# Altium integrated library Linear Technology Power Management uModule Regulators.IntLib: 166 symbols (part 34 of 67)
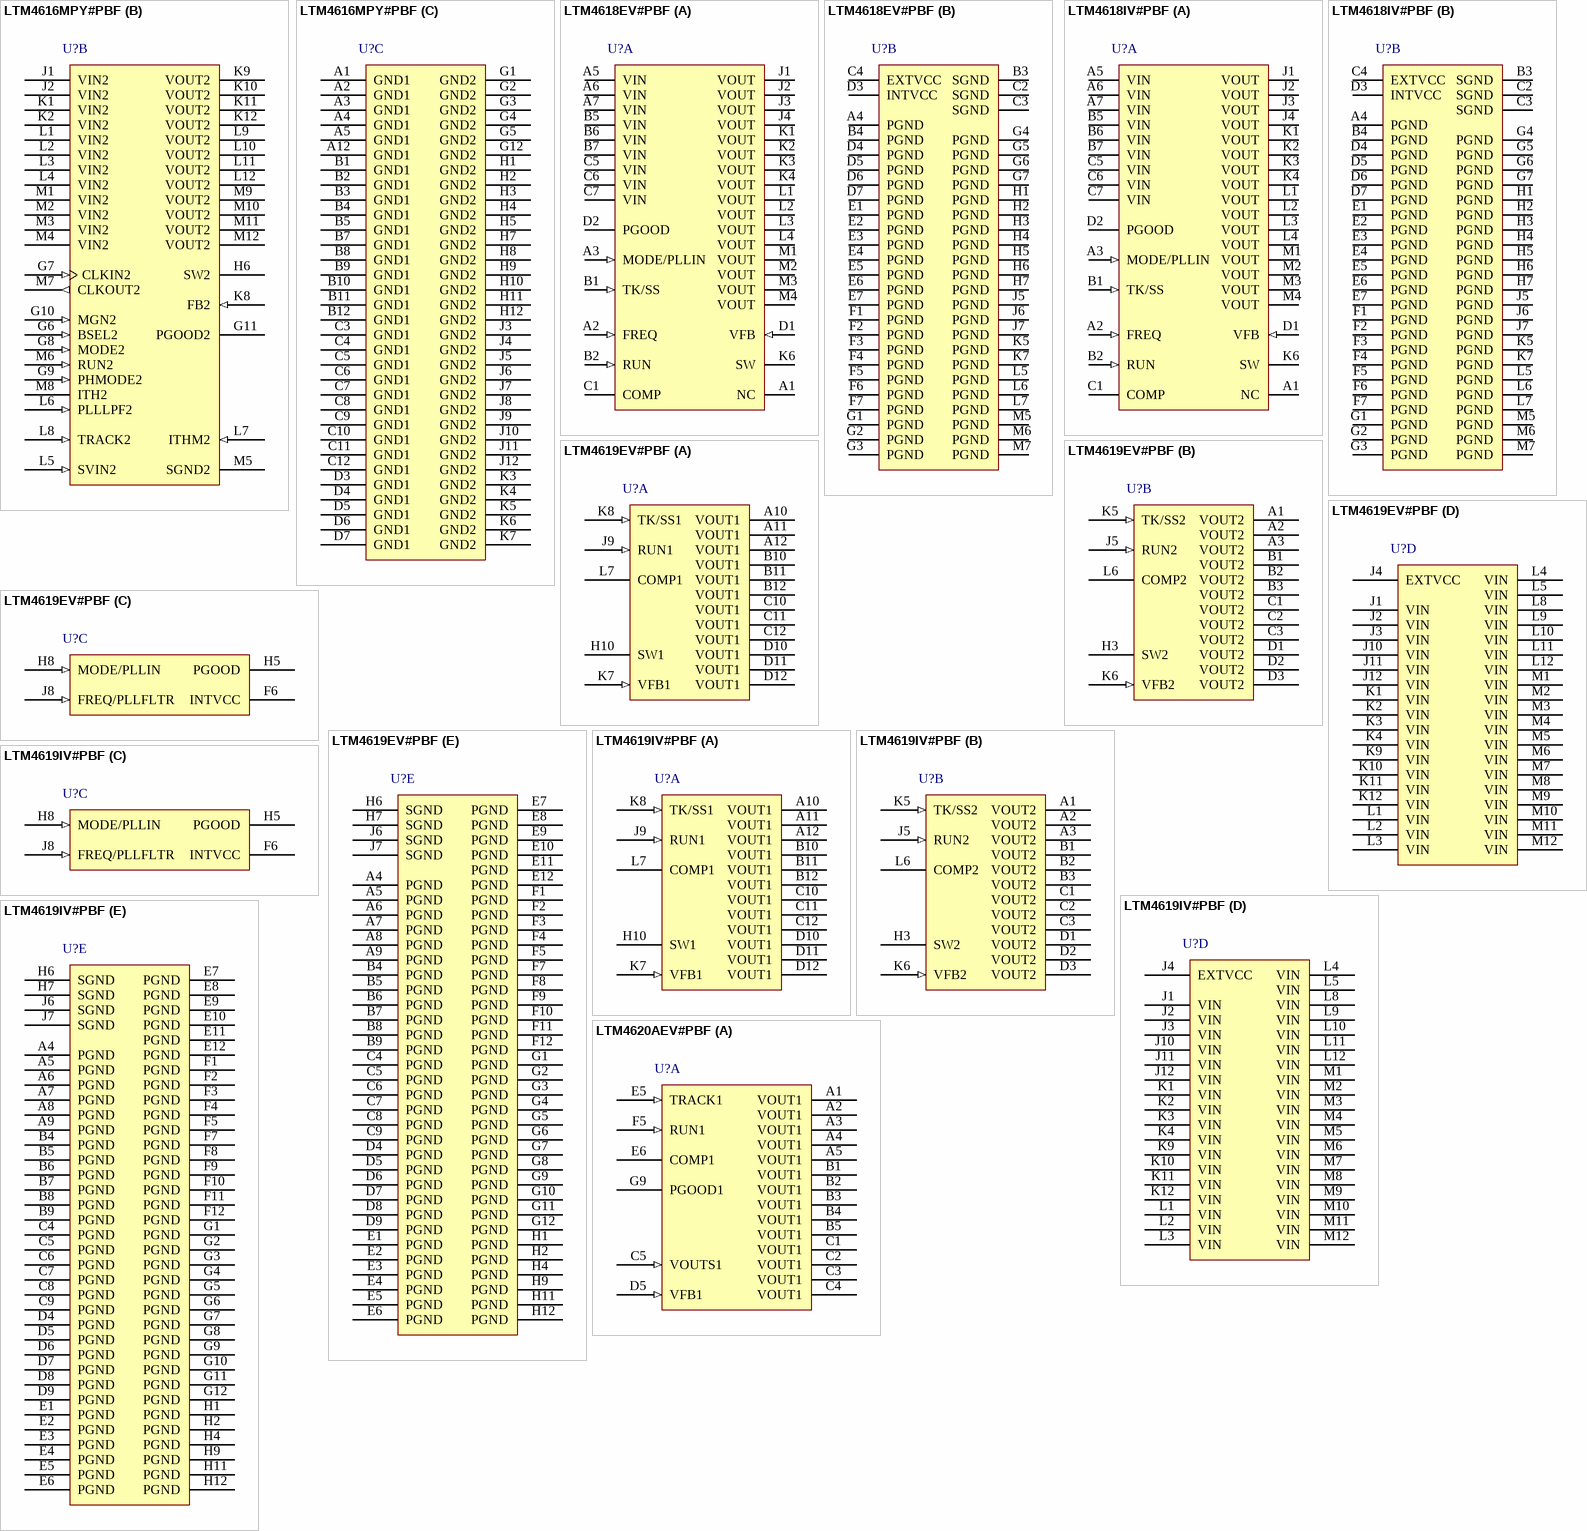
[diagram p60: symbols LTM4616MPY#PBF to LTM4620AEV#PBF]

## LTM4616MPY#PBF
designator U?
Dual 8 A per Channel Low VIN DC/DC uModule Regulator, 144-pin BGA, -55 to 125 degC, Pb-Free, Tray; Manufacturer: Linear Technology; PartNumber: LTM4616MPY#PBF; Extended Temp: E, I, MP; Frequency Sync Range: 750kHz - 2.25MHz; Ishutdown(uA): 1; Isupply(mA): 0.4; Number of Outputs: 1 or 2; Output Current(A): 8 or 16; Switch Current(A): 13 or 26; Synchronous: yes; Topology: Buck; Vin Max(V): 5.5; Vin Min(V): 2.7; Vout Max(V): 5; Vout Min(V): 0.6; DatasheetVersion: Rev. E; PackageVersion: Rev. B, 01/2013; PackageReference: BGA-144; PackageDescription: 144-Ball BGA, Body 15 x 15 mm, Pitch 1.27 mm; Supplier 1: Digi-Key; Supplier Part Number 1: LTM4616MPY#PBF-ND; Supplier 2: Newark; Supplier Part Number 2: 05W4639; Packing: Tray; RoHS: TRUE; Tracking: yes; Mounting Technology: Surface Mount; Code_JEDEC: MS-028; ComponentLink1Description: Manufacturer URL; ComponentLink1URL: http://www.linear.com/; ComponentLink2Description: Datasheet; ComponentLink2URL: http://cds.linear.com/docs/en/datasheet/4616fe.pdf; ComponentLink3Description: Package Specification; ComponentLink3URL: http://cds.linear.com/docs/en/packaging/05081902_B_bga144.pdf
footprint LT-BGA-144-05-08-1902 (BGA, 144-Balls, Body 15x15mm, Pitch 1.27mm)
part A pins: A6 BSEL1 (in) "Margining Bit Select Pin for Each Channel. Tying BSEL low selects +/-5% margin value, tying it high selects 10% margin value. Floating it or tying it to VIN/2 selects 15% margin value.", A7 CLKIN1 (in) "External Synchronization Input to Phase Detector for Each Channel. This pin is internally terminated to SGND with a 50k resistor. The phase-locked loop will force the internal top power PMOS turn on to be synchronized with (See Datasheet)", A8 MODE1 (in) "Mode Select Input for Each Channel. Tying this pin high enables Burst Mode operation. Tying this pin low enables forced continuous operation. Floating this pin or tying it to VIN/2 enables pulse-skipping operation.", A9 PHMODE1 (in) "Phase Selector Input for Each Channel. This pin determines the phase relationship between the internal oscillator and CLKOUT. Tie it high for 2-phase operation, tie it low for 3-phase operation, and float or tie it to VIN/2 (See Datasheet)", A10 MGN1 (in) "Voltage Margining Pin for Each Channel. Increases or decreases the output voltage by the amount specified by the BSEL pin. To disable margining, tie the MGN pin to a voltage divider with 50k resistors from VIN to ground (see (See Datasheet)", A11 PGOOD1 (oc) "Output Voltage Power Good Indicator for Each Channel. Open-drain logic output that is pulled to ground when the output voltage is not within +/-10% of the regulation point. Power good is disabled during margining.", B6 SW1 "Switching Node of Each Channel That is Used for Testing Purposes. This can be connected to an electronically open circuit copper pad on the board for improved thermal performance.", C1 VIN1 (power) "Power Input Pins. Apply input voltage between these pins and GND pins. Recommend placing input decoupling capacitance directly between VIN pins and GND pins.", C2 VIN1 (power) "Power Input Pins. Apply input voltage between these pins and GND pins. Recommend placing input decoupling capacitance directly between VIN pins and GND pins.", D1 VIN1 (power) "Power Input Pins. Apply input voltage between these pins and GND pins. Recommend placing input decoupling capacitance directly between VIN pins and GND pins.", D2 VIN1 (power) "Power Input Pins. Apply input voltage between these pins and GND pins. Recommend placing input decoupling capacitance directly between VIN pins and GND pins.", D8 FB1 (in) "The Negative Input of the Error Amplifier for Each Channel. Internally, this pin is connected to VOUT with a 10k precision resistor. Different output voltages can be programmed with an additional resistor between FB and GND (See Datasheet)", D9 VOUT1 (power) "Power Output Pins. Apply output load between these pins and GND pins. Recommend placing output decoupling capacitance directly between these pins and GND pins. See Table 1.", D10 VOUT1 (power) "Power Output Pins. Apply output load between these pins and GND pins. Recommend placing output decoupling capacitance directly between these pins and GND pins. See Table 1.", D11 VOUT1 (power) "Power Output Pins. Apply output load between these pins and GND pins. Recommend placing output decoupling capacitance directly between these pins and GND pins. See Table 1.", D12 VOUT1 (power) "Power Output Pins. Apply output load between these pins and GND pins. Recommend placing output decoupling capacitance directly between these pins and GND pins. See Table 1.", E1 VIN1 (power) "Power Input Pins. Apply input voltage between these pins and GND pins. Recommend placing input decoupling capacitance directly between VIN pins and GND pins.", E2 VIN1 (power) "Power Input Pins. Apply input voltage between these pins and GND pins. Recommend placing input decoupling capacitance directly between VIN pins and GND pins.", E3 VIN1 (power) "Power Input Pins. Apply input voltage between these pins and GND pins. Recommend placing input decoupling capacitance directly between VIN pins and GND pins.", E4 VIN1 (power) "Power Input Pins. Apply input voltage between these pins and GND pins. Recommend placing input decoupling capacitance directly between VIN pins and GND pins.", E5 SVIN1 (in) "Signal Input Voltage for Each Channel. This pin is internally connected to VIN through a lowpass filter.", E6 PLLLPF1 (in) "Phase-Locked Loop Lowpass Filter for Each Channel. An internal lowpass filter is tied to this pin. In spread spectrum mode, placing a capacitor here to SGND controls the slew rate from one frequency to the next. (See Datasheet)", E7 ITHM1 (in) "Negative Input to the Internal ITH Differential Amplifier for Each Channel. Tie this pin to SGND for single phase operation on each channel. For PolyPhase operation, tie the master’s ITHM to SGND while connecting all o(See Datasheet)", E8 TRACK1 (in) "Output Voltage Tracking Pin for Each Channel. Voltage tracking is enabled when the TRACK voltage is below 0.57V. If tracking is not desired, then connect the TRACK pin to SVIN. If TRACK is not tied to SVIN, then the TRACK (See Datasheet)", E9 VOUT1 (power) "Power Output Pins. Apply output load between these pins and GND pins. Recommend placing output decoupling capacitance directly between these pins and GND pins. See Table 1.", E10 VOUT1 (power) "Power Output Pins. Apply output load between these pins and GND pins. Recommend placing output decoupling capacitance directly between these pins and GND pins. See Table 1.", E11 VOUT1 (power) "Power Output Pins. Apply output load between these pins and GND pins. Recommend placing output decoupling capacitance directly between these pins and GND pins. See Table 1.", E12 VOUT1 (power) "Power Output Pins. Apply output load between these pins and GND pins. Recommend placing output decoupling capacitance directly between these pins and GND pins. See Table 1.", F1 VIN1 (power) "Power Input Pins. Apply input voltage between these pins and GND pins. Recommend placing input decoupling capacitance directly between VIN pins and GND pins.", F2 VIN1 (power) "Power Input Pins. Apply input voltage between these pins and GND pins. Recommend placing input decoupling capacitance directly between VIN pins and GND pins.", F3 VIN1 (power) "Power Input Pins. Apply input voltage between these pins and GND pins. Recommend placing input decoupling capacitance directly between VIN pins and GND pins.", F4 VIN1 (power) "Power Input Pins. Apply input voltage between these pins and GND pins. Recommend placing input decoupling capacitance directly between VIN pins and GND pins.", F5 SGND1 (power) "Signal Ground Pin for Each Channel. Return ground path for all analog and low power circuitry. Tie a single connection to the output capacitor GND in the application. See layout guidelines in Figure 17.", F6 RUN1 (in) "Run Control Pin. A voltage above 1.7V will turn on the module.", F7 CLKOUT1 (out) "Output Clock Signal for PolyPhase Operation. The phase of CLKOUT is determined by the state of the PHMODE pin.", F8 ITH1 "Current Control Threshold and Error Amplifier Compensation Point for Each Channel. The current comparator threshold increases with this control voltage. Tie together in parallel operation.", F9 VOUT1 (power) "Power Output Pins. Apply output load between these pins and GND pins. Recommend placing output decoupling capacitance directly between these pins and GND pins. See Table 1.", F10 VOUT1 (power) "Power Output Pins. Apply output load between these pins and GND pins. Recommend placing output decoupling capacitance directly between these pins and GND pins. See Table 1.", F11 VOUT1 (power) "Power Output Pins. Apply output load between these pins and GND pins. Recommend placing output decoupling capacitance directly between these pins and GND pins. See Table 1.", F12 VOUT1 (power) "Power Output Pins. Apply output load between these pins and GND pins. Recommend placing output decoupling capacitance directly between these pins and GND pins. See Table 1."
part B pins: G6 BSEL2 (in) "Margining Bit Select Pin for Each Channel. Tying BSEL low selects +/-5% margin value, tying it high selects 10% margin value. Floating it or tying it to VIN/2 selects 15% margin value.", G7 CLKIN2 (in) "External Synchronization Input to Phase Detector for Each Channel. This pin is internally terminated to SGND with a 50k resistor. The phase-locked loop will force the internal top power PMOS turn on to be synchronized with (See Datasheet)", G8 MODE2 (in) "Mode Select Input for Each Channel. Tying this pin high enables Burst Mode operation. Tying this pin low enables forced continuous operation. Floating this pin or tying it to VIN/2 enables pulse-skipping operation.", G9 PHMODE2 (in) "Phase Selector Input for Each Channel. This pin determines the phase relationship between the internal oscillator and CLKOUT. Tie it high for 2-phase operation, tie it low for 3-phase operation, and float or tie it to VIN/2 (See Datasheet)", G10 MGN2 (in) "Voltage Margining Pin for Each Channel. Increases or decreases the output voltage by the amount specified by the BSEL pin. To disable margining, tie the MGN pin to a voltage divider with 50k resistors from VIN to ground (see (See Datasheet)", G11 PGOOD2 (oc) "Output Voltage Power Good Indicator for Each Channel. Open-drain logic output that is pulled to ground when the output voltage is not within +/-10% of the regulation point. Power good is disabled during margining.", H6 SW2 "Switching Node of Each Channel That is Used for Testing Purposes. This can be connected to an electronically open circuit copper pad on the board for improved thermal performance.", J1 VIN2 (power) "Power Input Pins. Apply input voltage between these pins and GND pins. Recommend placing input decoupling capacitance directly between VIN pins and GND pins.", J2 VIN2 (power) "Power Input Pins. Apply input voltage between these pins and GND pins. Recommend placing input decoupling capacitance directly between VIN pins and GND pins.", K1 VIN2 (power) "Power Input Pins. Apply input voltage between these pins and GND pins. Recommend placing input decoupling capacitance directly between VIN pins and GND pins.", K2 VIN2 (power) "Power Input Pins. Apply input voltage between these pins and GND pins. Recommend placing input decoupling capacitance directly between VIN pins and GND pins.", K8 FB2 (in) "The Negative Input of the Error Amplifier for Each Channel. Internally, this pin is connected to VOUT with a 10k precision resistor. Different output voltages can be programmed with an additional resistor between FB and GND (See Datasheet)", K9 VOUT2 (power) "Power Output Pins. Apply output load between these pins and GND pins. Recommend placing output decoupling capacitance directly between these pins and GND pins. See Table 1.", K10 VOUT2 (power) "Power Output Pins. Apply output load between these pins and GND pins. Recommend placing output decoupling capacitance directly between these pins and GND pins. See Table 1.", K11 VOUT2 (power) "Power Output Pins. Apply output load between these pins and GND pins. Recommend placing output decoupling capacitance directly between these pins and GND pins. See Table 1.", K12 VOUT2 (power) "Power Output Pins. Apply output load between these pins and GND pins. Recommend placing output decoupling capacitance directly between these pins and GND pins. See Table 1.", L1 VIN2 (power) "Power Input Pins. Apply input voltage between these pins and GND pins. Recommend placing input decoupling capacitance directly between VIN pins and GND pins.", L2 VIN2 (power) "Power Input Pins. Apply input voltage between these pins and GND pins. Recommend placing input decoupling capacitance directly between VIN pins and GND pins.", L3 VIN2 (power) "Power Input Pins. Apply input voltage between these pins and GND pins. Recommend placing input decoupling capacitance directly between VIN pins and GND pins.", L4 VIN2 (power) "Power Input Pins. Apply input voltage between these pins and GND pins. Recommend placing input decoupling capacitance directly between VIN pins and GND pins.", L5 SVIN2 (in) "Signal Input Voltage for Each Channel. This pin is internally connected to VIN through a lowpass filter.", L6 PLLLPF2 (in) "Phase-Locked Loop Lowpass Filter for Each Channel. An internal lowpass filter is tied to this pin. In spread spectrum mode, placing a capacitor here to SGND controls the slew rate from one frequency to the next. (See Datasheet)", L7 ITHM2 (in) "Negative Input to the Internal ITH Differential Amplifier for Each Channel. Tie this pin to SGND for single phase operation on each channel. For PolyPhase operation, tie the master’s ITHM to SGND while connecting all o(See Datasheet)", L8 TRACK2 (in) "Output Voltage Tracking Pin for Each Channel. Voltage tracking is enabled when the TRACK voltage is below 0.57V. If tracking is not desired, then connect the TRACK pin to SVIN. If TRACK is not tied to SVIN, then the TRACK (See Datasheet)", L9 VOUT2 (power) "Power Output Pins. Apply output load between these pins and GND pins. Recommend placing output decoupling capacitance directly between these pins and GND pins. See Table 1.", L10 VOUT2 (power) "Power Output Pins. Apply output load between these pins and GND pins. Recommend placing output decoupling capacitance directly between these pins and GND pins. See Table 1.", L11 VOUT2 (power) "Power Output Pins. Apply output load between these pins and GND pins. Recommend placing output decoupling capacitance directly between these pins and GND pins. See Table 1.", L12 VOUT2 (power) "Power Output Pins. Apply output load between these pins and GND pins. Recommend placing output decoupling capacitance directly between these pins and GND pins. See Table 1.", M1 VIN2 (power) "Power Input Pins. Apply input voltage between these pins and GND pins. Recommend placing input decoupling capacitance directly between VIN pins and GND pins.", M2 VIN2 (power) "Power Input Pins. Apply input voltage between these pins and GND pins. Recommend placing input decoupling capacitance directly between VIN pins and GND pins.", M3 VIN2 (power) "Power Input Pins. Apply input voltage between these pins and GND pins. Recommend placing input decoupling capacitance directly between VIN pins and GND pins.", M4 VIN2 (power) "Power Input Pins. Apply input voltage between these pins and GND pins. Recommend placing input decoupling capacitance directly between VIN pins and GND pins.", M5 SGND2 (power) "Signal Ground Pin for Each Channel. Return ground path for all analog and low power circuitry. Tie a single connection to the output capacitor GND in the application. See layout guidelines in Figure 17.", M6 RUN2 (in) "Run Control Pin. A voltage above 1.7V will turn on the module.", M7 CLKOUT2 (out) "Output Clock Signal for PolyPhase Operation. The phase of CLKOUT is determined by the state of the PHMODE pin.", M8 ITH2 "Current Control Threshold and Error Amplifier Compensation Point for Each Channel. The current comparator threshold increases with this control voltage. Tie together in parallel operation.", M9 VOUT2 (power) "Power Output Pins. Apply output load between these pins and GND pins. Recommend placing output decoupling capacitance directly between these pins and GND pins. See Table 1.", M10 VOUT2 (power) "Power Output Pins. Apply output load between these pins and GND pins. Recommend placing output decoupling capacitance directly between these pins and GND pins. See Table 1.", M11 VOUT2 (power) "Power Output Pins. Apply output load between these pins and GND pins. Recommend placing output decoupling capacitance directly between these pins and GND pins. See Table 1.", M12 VOUT2 (power) "Power Output Pins. Apply output load between these pins and GND pins. Recommend placing output decoupling capacitance directly between these pins and GND pins. See Table 1."
part C pins: A1 GND1 (power) "Power Ground Pins for Both Input and Output Returns.", A2 GND1 (power) "Power Ground Pins for Both Input and Output Returns.", A3 GND1 (power) "Power Ground Pins for Both Input and Output Returns.", A4 GND1 (power) "Power Ground Pins for Both Input and Output Returns.", A5 GND1 (power) "Power Ground Pins for Both Input and Output Returns.", A12 GND1 (power) "Power Ground Pins for Both Input and Output Returns.", B1 GND1 (power) "Power Ground Pins for Both Input and Output Returns.", B2 GND1 (power) "Power Ground Pins for Both Input and Output Returns.", B3 GND1 (power) "Power Ground Pins for Both Input and Output Returns.", B4 GND1 (power) "Power Ground Pins for Both Input and Output Returns.", B5 GND1 (power) "Power Ground Pins for Both Input and Output Returns.", B7 GND1 (power) "Power Ground Pins for Both Input and Output Returns.", B8 GND1 (power) "Power Ground Pins for Both Input and Output Returns.", B9 GND1 (power) "Power Ground Pins for Both Input and Output Returns.", B10 GND1 (power) "Power Ground Pins for Both Input and Output Returns.", B11 GND1 (power) "Power Ground Pins for Both Input and Output Returns.", B12 GND1 (power) "Power Ground Pins for Both Input and Output Returns.", C3 GND1 (power) "Power Ground Pins for Both Input and Output Returns.", C4 GND1 (power) "Power Ground Pins for Both Input and Output Returns.", C5 GND1 (power) "Power Ground Pins for Both Input and Output Returns.", C6 GND1 (power) "Power Ground Pins for Both Input and Output Returns.", C7 GND1 (power) "Power Ground Pins for Both Input and Output Returns.", C8 GND1 (power) "Power Ground Pins for Both Input and Output Returns.", C9 GND1 (power) "Power Ground Pins for Both Input and Output Returns.", C10 GND1 (power) "Power Ground Pins for Both Input and Output Returns.", C11 GND1 (power) "Power Ground Pins for Both Input and Output Returns.", C12 GND1 (power) "Power Ground Pins for Both Input and Output Returns.", D3 GND1 (power) "Power Ground Pins for Both Input and Output Returns.", D4 GND1 (power) "Power Ground Pins for Both Input and Output Returns.", D5 GND1 (power) "Power Ground Pins for Both Input and Output Returns.", D6 GND1 (power) "Power Ground Pins for Both Input and Output Returns.", D7 GND1 (power) "Power Ground Pins for Both Input and Output Returns.", G1 GND2 (power) "Power Ground Pins for Both Input and Output Returns.", G2 GND2 (power) "Power Ground Pins for Both Input and Output Returns.", G3 GND2 (power) "Power Ground Pins for Both Input and Output Returns.", G4 GND2 (power) "Power Ground Pins for Both Input and Output Returns.", G5 GND2 (power) "Power Ground Pins for Both Input and Output Returns.", G12 GND2 (power) "Power Ground Pins for Both Input and Output Returns.", H1 GND2 (power) "Power Ground Pins for Both Input and Output Returns.", H2 GND2 (power) "Power Ground Pins for Both Input and Output Returns.", H3 GND2 (power) "Power Ground Pins for Both Input and Output Returns.", H4 GND2 (power) "Power Ground Pins for Both Input and Output Returns.", H5 GND2 (power) "Power Ground Pins for Both Input and Output Returns.", H7 GND2 (power) "Power Ground Pins for Both Input and Output Returns.", H8 GND2 (power) "Power Ground Pins for Both Input and Output Returns.", H9 GND2 (power) "Power Ground Pins for Both Input and Output Returns.", H10 GND2 (power) "Power Ground Pins for Both Input and Output Returns.", H11 GND2 (power) "Power Ground Pins for Both Input and Output Returns.", H12 GND2 (power) "Power Ground Pins for Both Input and Output Returns.", J3 GND2 (power) "Power Ground Pins for Both Input and Output Returns.", J4 GND2 (power) "Power Ground Pins for Both Input and Output Returns.", J5 GND2 (power) "Power Ground Pins for Both Input and Output Returns.", J6 GND2 (power) "Power Ground Pins for Both Input and Output Returns.", J7 GND2 (power) "Power Ground Pins for Both Input and Output Returns.", J8 GND2 (power) "Power Ground Pins for Both Input and Output Returns.", J9 GND2 (power) "Power Ground Pins for Both Input and Output Returns.", J10 GND2 (power) "Power Ground Pins for Both Input and Output Returns.", J11 GND2 (power) "Power Ground Pins for Both Input and Output Returns.", J12 GND2 (power) "Power Ground Pins for Both Input and Output Returns.", K3 GND2 (power) "Power Ground Pins for Both Input and Output Returns.", K4 GND2 (power) "Power Ground Pins for Both Input and Output Returns.", K5 GND2 (power) "Power Ground Pins for Both Input and Output Returns.", K6 GND2 (power) "Power Ground Pins for Both Input and Output Returns.", K7 GND2 (power) "Power Ground Pins for Both Input and Output Returns."

## LTM4618EV#PBF
designator U?
6 A DC/DC uModule Regulator with Tracking and Frequency Synchronization, 84-pin LGA, -40 to 125 degC, Pb-Free, Tray; Manufacturer: Linear Technology; PartNumber: LTM4618EV#PBF; Extended Temp: E, I; Frequency Adjust Range: 250kHz - 780KHz; Frequency Sync Range: 400kHz - 780KHz; Frequency(kHz): 780; Ishutdown(uA): 80; Isupply(mA): 20; Number of Outputs: 1; Output Current(A): 6; Switch Current(A): 11; Synchronous: yes; Topology: Buck; Vin Max(V): 26.5; Vin Min(V): 4.5; Vout Max(V): 5; Vout Min(V): 0.8; DatasheetVersion: Rev. A; PackageVersion: Rev. B, 01/2013; PackageReference: LGA-84; PackageDescription: 84-Pin LGA, Body 15 x 9 mm, Pitch 1.27 mm; Supplier 1: Digi-Key; Supplier Part Number 1: LTM4618EV#PBF-ND; Supplier 2: Farnell; Supplier Part Number 2: 1847467; Supplier 3: Farnell; Supplier Part Number 3: 1838294; Supplier 4: Newark; Supplier Part Number 4: 84R5009; Packing: Tray; RoHS: TRUE; Tracking: yes; Mounting Technology: Surface Mount; Code_JEDEC: MO-222; ComponentLink1Description: Manufacturer URL; ComponentLink1URL: http://www.linear.com/; ComponentLink2Description: Datasheet; ComponentLink2URL: http://cds.linear.com/docs/en/datasheet/4618fa.pdf; ComponentLink3Description: Package Specification; ComponentLink3URL: http://cds.linear.com/docs/en/packaging/05081842_B_lga84.pdf
footprint LT-LGA-84-15000X9000X4320_V (LGA, 84-Leads, Body 15x9mm, Pitch 1.27mm)
part A pins: A1 NC "No Connect. Leave floating.", A2 FREQ (in) "Frequency Selection Pin. An internal low pass filter is tied to this pin. The frequency can be selected with a voltage from this pin to SGND. A programming resistor divider can be used to set the operating frequency. The (See Datasheet)", A3 MODE/PLLIN (in) "Mode Selection or External Synchronization Pin. Tying this pin to INTVCC enables pulse-skipping operation. Tying this pin low enables forced continuous mode operation. Burst Mode operation is enabled by floating the pin. A (See Datasheet)", A5 VIN (power) "Power Input Pins. Apply input voltage between these pins and PGND pins. Recommend placing input decoupling capacitance directly between VIN pins and PGND pins.", A6 VIN (power) "Power Input Pins. Apply input voltage between these pins and PGND pins. Recommend placing input decoupling capacitance directly between VIN pins and PGND pins.", A7 VIN (power) "Power Input Pins. Apply input voltage between these pins and PGND pins. Recommend placing input decoupling capacitance directly between VIN pins and PGND pins.", B1 TK/SS (in) "Output Voltage Tracking and Soft-Start Pin. An internal soft-start current of 1.3uA charges the soft-start capacitor. See the Applications Information section.", B2 RUN (in) "Run Control Pin. A voltage above 1.35V on this pin turns on the module. Forcing this pin below 1.1V will shut down the output. The RUN pin has a 1uA pullup current source that increases to 10uA as the RUN pin voltage reaches (See Datasheet)", B5 VIN (power) "Power Input Pins. Apply input voltage between these pins and PGND pins. Recommend placing input decoupling capacitance directly between VIN pins and PGND pins.", B6 VIN (power) "Power Input Pins. Apply input voltage between these pins and PGND pins. Recommend placing input decoupling capacitance directly between VIN pins and PGND pins.", B7 VIN (power) "Power Input Pins. Apply input voltage between these pins and PGND pins. Recommend placing input decoupling capacitance directly between VIN pins and PGND pins.", C1 COMP "Current control threshold and error amplifier compensation point. The module has been internally compensated for most I/O ranges.", C5 VIN (power) "Power Input Pins. Apply input voltage between these pins and PGND pins. Recommend placing input decoupling capacitance directly between VIN pins and PGND pins.", C6 VIN (power) "Power Input Pins. Apply input voltage between these pins and PGND pins. Recommend placing input decoupling capacitance directly between VIN pins and PGND pins.", C7 VIN (power) "Power Input Pins. Apply input voltage between these pins and PGND pins. Recommend placing input decoupling capacitance directly between VIN pins and PGND pins.", D1 VFB (in) "The negative input of the error amplifier. Internally, this pin is connected to VOUT with a 60.4kohm precision resistor. Different output voltages can be programmed with an additional resistor between VFB and SGND pins. See (See Datasheet)", D2 PGOOD (oc) "Output Voltage Power Good Indicator. Open-drain logic output that is pulled to ground when the output voltage is not within +/-7.5% of the regulation point.", J1 VOUT (power) "Power Output Pins. Apply output load between these pins and PGND pins. Recommend placing output decoupling capacitance directly between these pins and PGND pins.", J2 VOUT (power) "Power Output Pins. Apply output load between these pins and PGND pins. Recommend placing output decoupling capacitance directly between these pins and PGND pins.", J3 VOUT (power) "Power Output Pins. Apply output load between these pins and PGND pins. Recommend placing output decoupling capacitance directly between these pins and PGND pins.", J4 VOUT (power) "Power Output Pins. Apply output load between these pins and PGND pins. Recommend placing output decoupling capacitance directly between these pins and PGND pins.", K1 VOUT (power) "Power Output Pins. Apply output load between these pins and PGND pins. Recommend placing output decoupling capacitance directly between these pins and PGND pins.", K2 VOUT (power) "Power Output Pins. Apply output load between these pins and PGND pins. Recommend placing output decoupling capacitance directly between these pins and PGND pins.", K3 VOUT (power) "Power Output Pins. Apply output load between these pins and PGND pins. Recommend placing output decoupling capacitance directly between these pins and PGND pins.", K4 VOUT (power) "Power Output Pins. Apply output load between these pins and PGND pins. Recommend placing output decoupling capacitance directly between these pins and PGND pins.", K6 SW "Switching Node of the Circuit. This pin is used to check the switching frequency. Leave pin floating. A resistor-capacitor snubber can be placed from SW to PGND to eliminate high frequency switch node ringing. See the (See Datasheet)", L1 VOUT (power) "Power Output Pins. Apply output load between these pins and PGND pins. Recommend placing output decoupling capacitance directly between these pins and PGND pins.", L2 VOUT (power) "Power Output Pins. Apply output load between these pins and PGND pins. Recommend placing output decoupling capacitance directly between these pins and PGND pins.", L3 VOUT (power) "Power Output Pins. Apply output load between these pins and PGND pins. Recommend placing output decoupling capacitance directly between these pins and PGND pins.", L4 VOUT (power) "Power Output Pins. Apply output load between these pins and PGND pins. Recommend placing output decoupling capacitance directly between these pins and PGND pins.", M1 VOUT (power) "Power Output Pins. Apply output load between these pins and PGND pins. Recommend placing output decoupling capacitance directly between these pins and PGND pins.", M2 VOUT (power) "Power Output Pins. Apply output load between these pins and PGND pins. Recommend placing output decoupling capacitance directly between these pins and PGND pins.", M3 VOUT (power) "Power Output Pins. Apply output load between these pins and PGND pins. Recommend placing output decoupling capacitance directly between these pins and PGND pins.", M4 VOUT (power) "Power Output Pins. Apply output load between these pins and PGND pins. Recommend placing output decoupling capacitance directly between these pins and PGND pins."
part B pins: A4 PGND (power) "Power ground pins for both input and output returns.", B3 SGND (power) "Signal Ground Pin. Return ground path for all analog and low power circuitry. Tie a single connection to PGND. See applications for details.", B4 PGND (power) "Power ground pins for both input and output returns.", C2 SGND (power) "Signal Ground Pin. Return ground path for all analog and low power circuitry. Tie a single connection to PGND. See applications for details.", C3 SGND (power) "Signal Ground Pin. Return ground path for all analog and low power circuitry. Tie a single connection to PGND. See applications for details.", C4 EXTVCC (power) "External Voltage Input. Bypasses the internal INTVCC LDO and powers the internal circuitry and MOSFET drivers. If a 5V source is available, the internal LDO is disabled, and the power dissipation is lower, especially at (See Datasheet)", D3 INTVCC (power) "Internal 5V Regulator Output. This pin is for additional decoupling of the 5V internal regulator.", D4 PGND (power) "Power ground pins for both input and output returns.", D5 PGND (power) "Power ground pins for both input and output returns.", D6 PGND (power) "Power ground pins for both input and output returns.", D7 PGND (power) "Power ground pins for both input and output returns.", E1 PGND (power) "Power ground pins for both input and output returns.", E2 PGND (power) "Power ground pins for both input and output returns.", E3 PGND (power) "Power ground pins for both input and output returns.", E4 PGND (power) "Power ground pins for both input and output returns.", E5 PGND (power) "Power ground pins for both input and output returns.", E6 PGND (power) "Power ground pins for both input and output returns.", E7 PGND (power) "Power ground pins for both input and output returns.", F1 PGND (power) "Power ground pins for both input and output returns.", F2 PGND (power) "Power ground pins for both input and output returns.", F3 PGND (power) "Power ground pins for both input and output returns.", F4 PGND (power) "Power ground pins for both input and output returns.", F5 PGND (power) "Power ground pins for both input and output returns.", F6 PGND (power) "Power ground pins for both input and output returns.", F7 PGND (power) "Power ground pins for both input and output returns.", G1 PGND (power) "Power ground pins for both input and output returns.", G2 PGND (power) "Power ground pins for both input and output returns.", G3 PGND (power) "Power ground pins for both input and output returns.", G4 PGND (power) "Power ground pins for both input and output returns.", G5 PGND (power) "Power ground pins for both input and output returns.", G6 PGND (power) "Power ground pins for both input and output returns.", G7 PGND (power) "Power ground pins for both input and output returns.", H1 PGND (power) "Power ground pins for both input and output returns.", H2 PGND (power) "Power ground pins for both input and output returns.", H3 PGND (power) "Power ground pins for both input and output returns.", H4 PGND (power) "Power ground pins for both input and output returns.", H5 PGND (power) "Power ground pins for both input and output returns.", H6 PGND (power) "Power ground pins for both input and output returns.", H7 PGND (power) "Power ground pins for both input and output returns.", J5 PGND (power) "Power ground pins for both input and output returns.", J6 PGND (power) "Power ground pins for both input and output returns.", J7 PGND (power) "Power ground pins for both input and output returns.", K5 PGND (power) "Power ground pins for both input and output returns.", K7 PGND (power) "Power ground pins for both input and output returns.", L5 PGND (power) "Power ground pins for both input and output returns.", L6 PGND (power) "Power ground pins for both input and output returns.", L7 PGND (power) "Power ground pins for both input and output returns.", M5 PGND (power) "Power ground pins for both input and output returns.", M6 PGND (power) "Power ground pins for both input and output returns.", M7 PGND (power) "Power ground pins for both input and output returns."

## LTM4618IV#PBF
designator U?
6 A DC/DC uModule Regulator with Tracking and Frequency Synchronization, 84-pin LGA, -40 to 125 degC, Pb-Free, Tray; Manufacturer: Linear Technology; PartNumber: LTM4618IV#PBF; Extended Temp: E, I; Frequency Adjust Range: 250kHz - 780KHz; Frequency Sync Range: 400kHz - 780KHz; Frequency(kHz): 780; Ishutdown(uA): 80; Isupply(mA): 20; Number of Outputs: 1; Output Current(A): 6; Switch Current(A): 11; Synchronous: yes; Topology: Buck; Vin Max(V): 26.5; Vin Min(V): 4.5; Vout Max(V): 5; Vout Min(V): 0.8; DatasheetVersion: Rev. A; PackageVersion: Rev. B, 01/2013; PackageReference: LGA-84; PackageDescription: 84-Pin LGA, Body 15 x 9 mm, Pitch 1.27 mm; Supplier 1: Digi-Key; Supplier Part Number 1: LTM4618IV#PBF-ND; Supplier 2: Farnell; Supplier Part Number 2: 1847468; Supplier 3: Farnell; Supplier Part Number 3: 1838296; Supplier 4: Newark; Supplier Part Number 4: 84R5010; Packing: Tray; RoHS: TRUE; Tracking: yes; Mounting Technology: Surface Mount; Code_JEDEC: MO-222; ComponentLink1Description: Manufacturer URL; ComponentLink1URL: http://www.linear.com/; ComponentLink2Description: Datasheet; ComponentLink2URL: http://cds.linear.com/docs/en/datasheet/4618fa.pdf; ComponentLink3Description: Package Specification; ComponentLink3URL: http://cds.linear.com/docs/en/packaging/05081842_B_lga84.pdf
footprint LT-LGA-84-15000X9000X4320_V (LGA, 84-Leads, Body 15x9mm, Pitch 1.27mm)
part A pins: A1 NC "No Connect. Leave floating.", A2 FREQ (in) "Frequency Selection Pin. An internal low pass filter is tied to this pin. The frequency can be selected with a voltage from this pin to SGND. A programming resistor divider can be used to set the operating frequency. The (See Datasheet)", A3 MODE/PLLIN (in) "Mode Selection or External Synchronization Pin. Tying this pin to INTVCC enables pulse-skipping operation. Tying this pin low enables forced continuous mode operation. Burst Mode operation is enabled by floating the pin. A (See Datasheet)", A5 VIN (power) "Power Input Pins. Apply input voltage between these pins and PGND pins. Recommend placing input decoupling capacitance directly between VIN pins and PGND pins.", A6 VIN (power) "Power Input Pins. Apply input voltage between these pins and PGND pins. Recommend placing input decoupling capacitance directly between VIN pins and PGND pins.", A7 VIN (power) "Power Input Pins. Apply input voltage between these pins and PGND pins. Recommend placing input decoupling capacitance directly between VIN pins and PGND pins.", B1 TK/SS (in) "Output Voltage Tracking and Soft-Start Pin. An internal soft-start current of 1.3uA charges the soft-start capacitor. See the Applications Information section.", B2 RUN (in) "Run Control Pin. A voltage above 1.35V on this pin turns on the module. Forcing this pin below 1.1V will shut down the output. The RUN pin has a 1uA pullup current source that increases to 10uA as the RUN pin voltage reaches (See Datasheet)", B5 VIN (power) "Power Input Pins. Apply input voltage between these pins and PGND pins. Recommend placing input decoupling capacitance directly between VIN pins and PGND pins.", B6 VIN (power) "Power Input Pins. Apply input voltage between these pins and PGND pins. Recommend placing input decoupling capacitance directly between VIN pins and PGND pins.", B7 VIN (power) "Power Input Pins. Apply input voltage between these pins and PGND pins. Recommend placing input decoupling capacitance directly between VIN pins and PGND pins.", C1 COMP "Current control threshold and error amplifier compensation point. The module has been internally compensated for most I/O ranges.", C5 VIN (power) "Power Input Pins. Apply input voltage between these pins and PGND pins. Recommend placing input decoupling capacitance directly between VIN pins and PGND pins.", C6 VIN (power) "Power Input Pins. Apply input voltage between these pins and PGND pins. Recommend placing input decoupling capacitance directly between VIN pins and PGND pins.", C7 VIN (power) "Power Input Pins. Apply input voltage between these pins and PGND pins. Recommend placing input decoupling capacitance directly between VIN pins and PGND pins.", D1 VFB (in) "The negative input of the error amplifier. Internally, this pin is connected to VOUT with a 60.4kohm precision resistor. Different output voltages can be programmed with an additional resistor between VFB and SGND pins. See (See Datasheet)", D2 PGOOD (oc) "Output Voltage Power Good Indicator. Open-drain logic output that is pulled to ground when the output voltage is not within +/-7.5% of the regulation point.", J1 VOUT (power) "Power Output Pins. Apply output load between these pins and PGND pins. Recommend placing output decoupling capacitance directly between these pins and PGND pins.", J2 VOUT (power) "Power Output Pins. Apply output load between these pins and PGND pins. Recommend placing output decoupling capacitance directly between these pins and PGND pins.", J3 VOUT (power) "Power Output Pins. Apply output load between these pins and PGND pins. Recommend placing output decoupling capacitance directly between these pins and PGND pins.", J4 VOUT (power) "Power Output Pins. Apply output load between these pins and PGND pins. Recommend placing output decoupling capacitance directly between these pins and PGND pins.", K1 VOUT (power) "Power Output Pins. Apply output load between these pins and PGND pins. Recommend placing output decoupling capacitance directly between these pins and PGND pins.", K2 VOUT (power) "Power Output Pins. Apply output load between these pins and PGND pins. Recommend placing output decoupling capacitance directly between these pins and PGND pins.", K3 VOUT (power) "Power Output Pins. Apply output load between these pins and PGND pins. Recommend placing output decoupling capacitance directly between these pins and PGND pins.", K4 VOUT (power) "Power Output Pins. Apply output load between these pins and PGND pins. Recommend placing output decoupling capacitance directly between these pins and PGND pins.", K6 SW "Switching Node of the Circuit. This pin is used to check the switching frequency. Leave pin floating. A resistor-capacitor snubber can be placed from SW to PGND to eliminate high frequency switch node ringing. See the (See Datasheet)", L1 VOUT (power) "Power Output Pins. Apply output load between these pins and PGND pins. Recommend placing output decoupling capacitance directly between these pins and PGND pins.", L2 VOUT (power) "Power Output Pins. Apply output load between these pins and PGND pins. Recommend placing output decoupling capacitance directly between these pins and PGND pins.", L3 VOUT (power) "Power Output Pins. Apply output load between these pins and PGND pins. Recommend placing output decoupling capacitance directly between these pins and PGND pins.", L4 VOUT (power) "Power Output Pins. Apply output load between these pins and PGND pins. Recommend placing output decoupling capacitance directly between these pins and PGND pins.", M1 VOUT (power) "Power Output Pins. Apply output load between these pins and PGND pins. Recommend placing output decoupling capacitance directly between these pins and PGND pins.", M2 VOUT (power) "Power Output Pins. Apply output load between these pins and PGND pins. Recommend placing output decoupling capacitance directly between these pins and PGND pins.", M3 VOUT (power) "Power Output Pins. Apply output load between these pins and PGND pins. Recommend placing output decoupling capacitance directly between these pins and PGND pins.", M4 VOUT (power) "Power Output Pins. Apply output load between these pins and PGND pins. Recommend placing output decoupling capacitance directly between these pins and PGND pins."
part B pins: A4 PGND (power) "Power ground pins for both input and output returns.", B3 SGND (power) "Signal Ground Pin. Return ground path for all analog and low power circuitry. Tie a single connection to PGND. See applications for details.", B4 PGND (power) "Power ground pins for both input and output returns.", C2 SGND (power) "Signal Ground Pin. Return ground path for all analog and low power circuitry. Tie a single connection to PGND. See applications for details.", C3 SGND (power) "Signal Ground Pin. Return ground path for all analog and low power circuitry. Tie a single connection to PGND. See applications for details.", C4 EXTVCC (power) "External Voltage Input. Bypasses the internal INTVCC LDO and powers the internal circuitry and MOSFET drivers. If a 5V source is available, the internal LDO is disabled, and the power dissipation is lower, especially at (See Datasheet)", D3 INTVCC (power) "Internal 5V Regulator Output. This pin is for additional decoupling of the 5V internal regulator.", D4 PGND (power) "Power ground pins for both input and output returns.", D5 PGND (power) "Power ground pins for both input and output returns.", D6 PGND (power) "Power ground pins for both input and output returns.", D7 PGND (power) "Power ground pins for both input and output returns.", E1 PGND (power) "Power ground pins for both input and output returns.", E2 PGND (power) "Power ground pins for both input and output returns.", E3 PGND (power) "Power ground pins for both input and output returns.", E4 PGND (power) "Power ground pins for both input and output returns.", E5 PGND (power) "Power ground pins for both input and output returns.", E6 PGND (power) "Power ground pins for both input and output returns.", E7 PGND (power) "Power ground pins for both input and output returns.", F1 PGND (power) "Power ground pins for both input and output returns.", F2 PGND (power) "Power ground pins for both input and output returns.", F3 PGND (power) "Power ground pins for both input and output returns.", F4 PGND (power) "Power ground pins for both input and output returns.", F5 PGND (power) "Power ground pins for both input and output returns.", F6 PGND (power) "Power ground pins for both input and output returns.", F7 PGND (power) "Power ground pins for both input and output returns.", G1 PGND (power) "Power ground pins for both input and output returns.", G2 PGND (power) "Power ground pins for both input and output returns.", G3 PGND (power) "Power ground pins for both input and output returns.", G4 PGND (power) "Power ground pins for both input and output returns.", G5 PGND (power) "Power ground pins for both input and output returns.", G6 PGND (power) "Power ground pins for both input and output returns.", G7 PGND (power) "Power ground pins for both input and output returns.", H1 PGND (power) "Power ground pins for both input and output returns.", H2 PGND (power) "Power ground pins for both input and output returns.", H3 PGND (power) "Power ground pins for both input and output returns.", H4 PGND (power) "Power ground pins for both input and output returns.", H5 PGND (power) "Power ground pins for both input and output returns.", H6 PGND (power) "Power ground pins for both input and output returns.", H7 PGND (power) "Power ground pins for both input and output returns.", J5 PGND (power) "Power ground pins for both input and output returns.", J6 PGND (power) "Power ground pins for both input and output returns.", J7 PGND (power) "Power ground pins for both input and output returns.", K5 PGND (power) "Power ground pins for both input and output returns.", K7 PGND (power) "Power ground pins for both input and output returns.", L5 PGND (power) "Power ground pins for both input and output returns.", L6 PGND (power) "Power ground pins for both input and output returns.", L7 PGND (power) "Power ground pins for both input and output returns.", M5 PGND (power) "Power ground pins for both input and output returns.", M6 PGND (power) "Power ground pins for both input and output returns.", M7 PGND (power) "Power ground pins for both input and output returns."